# Altium integrated library TI Amplifiers and Linear Operational Amplifier High Speed.IntLib: 1100 symbols (part 18 of 44)
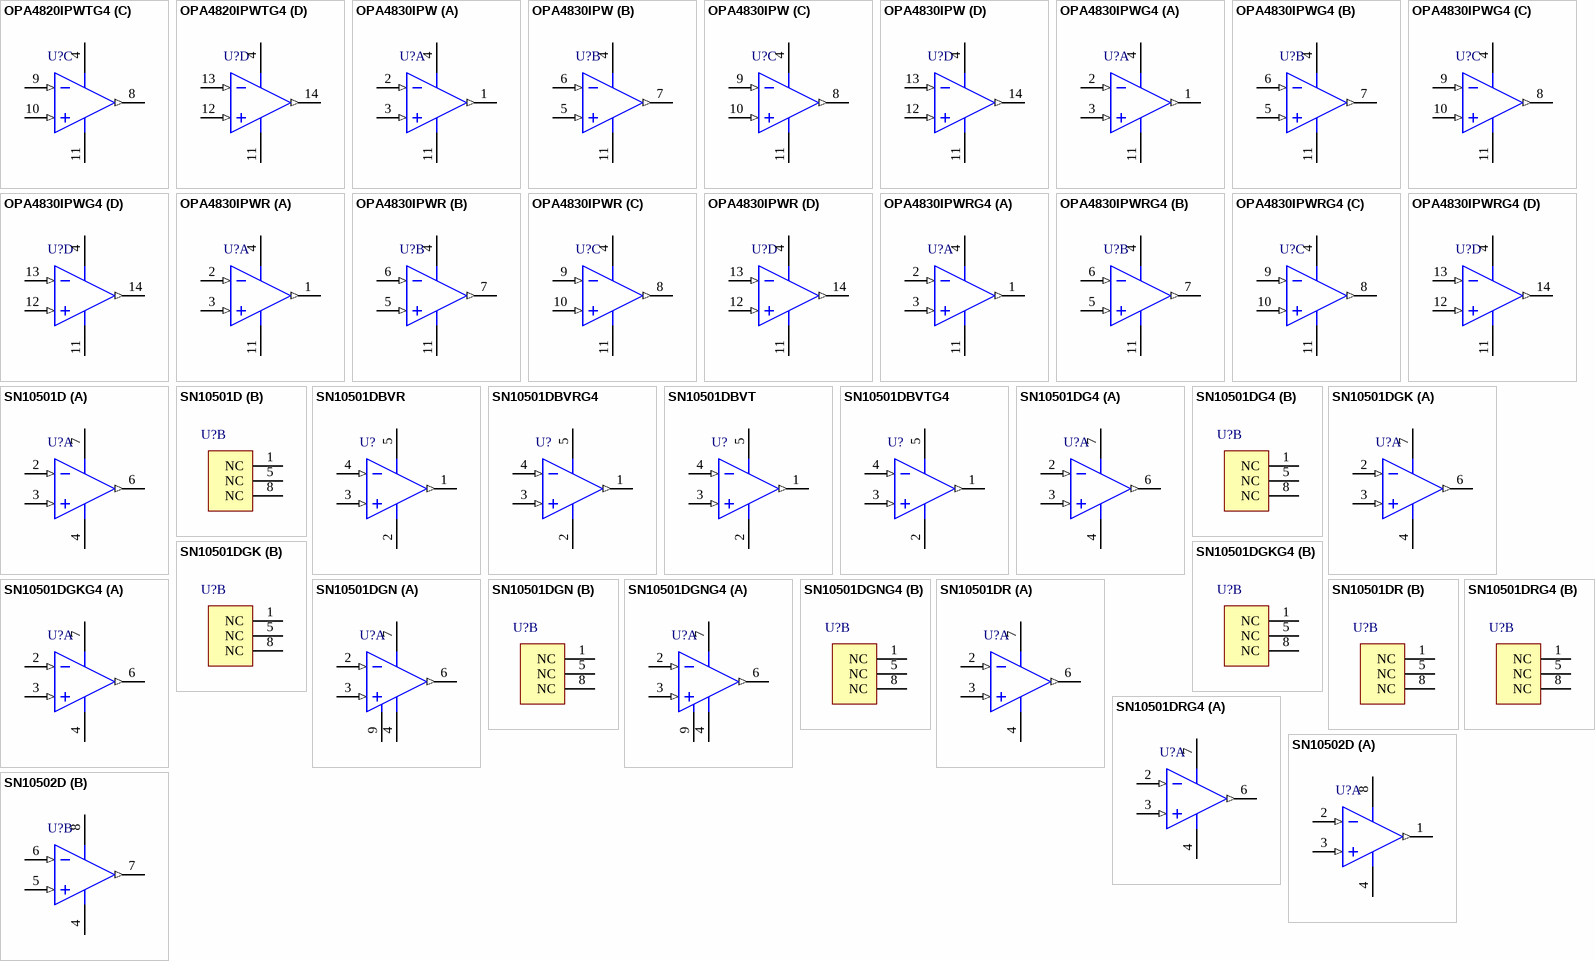
[diagram p68: symbols OPA4820IPWTG4 to SN10502D]

## OPA4820IPWTG4
designator U?
Quad, Unity-Gain, Low-Noise, Voltage-Feedback Operational Amplifier, 4 to 12.6 V, -40 to 85 degC, 14-pin SOP (PW14), Green (RoHS & no Sb/Br); Manufacturer: Texas Instruments; PartNumber: OPA4820IPWTG4; 2nd Harmonic(dBc): 84; 3rd Harmonic(dBc): 92; Acl, min stable gain(V/V): 1; BW @ Acl(MHz): 650; Diff Gain(%): 0.003; Diff Phase(deg): 0.06; Iib(Max)(nA): 26000; Io(Typ)(mA): 85; Iq per channel(Max)(mA): 25.8; Number of Channels: 4; Settling Time (0.1%)(Typ)(ns): 18; Slew Rate(Typ)(V/us): 240; Sub Family: High Output Current Amplifier (>=50mA), High Speed Amplifier (>=50MHz); Vio(Max)(mV): 1.5; Vn at Flatband(Typ)(nV/rtHz): 2.5; Vs(Max)(V): 12.6; DatasheetVersion: SBOS317D; PackageVersion: 4040064-3/G, 02/2011; PackageReference: PW14; PackageDescription: 14-Pin Plastic Small Outline, Body 5 x 4.4 mm, Pitch 0.65 mm; Supplier 1: Digi-Key; Supplier Part Number 1: OPA4820IPWTG4-ND; Supplier 2: Mouser; Supplier Part Number 2: 595-OPA4820IPWTG4; Eco-Plan: Green (RoHS & no Sb/Br); Vs(Min)(V): 4; Mounting Technology: Surface Mount; Code_JEDEC: MO-153; ComponentLink1Description: Manufacturer URL; ComponentLink1URL: http://www.ti.com/; ComponentLink2Description: Datasheet; ComponentLink2URL: http://www.ti.com/general/docs/lit/getliterature.tsp?genericPartNumber=OPA4820&fileType=pdf; ComponentLink3Description: Package Specification; ComponentLink3URL: http://www.ti.com/litv/pdf/mpds360
footprint TI-PW14_N (SOP, 14-Leads, Body 5x4.4mm, Pitch 0.65mm, IPC Medium Density)
footprint TI-PW14_L (SOP, 14-Leads, Body 5x4.4mm, Pitch 0.65mm, IPC High Density)
footprint TI-PW14_M (SOP, 14-Leads, Body 5x4.4mm, Pitch 0.65mm, IPC Low Density)
pins on every part: 4 V+ (power), 11 V- (power)
part A pins: 1 OUT A (out), 2 IN A- (in), 3 IN A+ (in)
part B pins: 5 IN B+ (in), 6 IN B- (in), 7 OUT B (out)
part C pins: 8 OUT C (out), 9 IN C- (in), 10 IN C+ (in)
part D pins: 12 IN D+ (in), 13 IN D- (in), 14 OUT D (out)

## OPA4830IPW
designator U?
Quad, Low-Power, Single-Supply, Wideband Operational Amplifier, 2.8 to 11 V, -40 to 85 degC, 14-pin SOP (PW14), Green (RoHS & no Sb/Br); Manufacturer: Texas Instruments; PartNumber: OPA4830IPW; 2nd Harmonic(dBc): 48; @ MHz: 5; Acl, min stable gain(V/V): 1; BW @ Acl(MHz): 110; Diff Gain(%): 0.08; Diff Phase(deg): 0.09; Iib(Max)(nA): 10000; Io(Typ)(mA): 75; Iq per channel(Max)(mA): 3.9; Number of Channels: 4; Rail-Rail: Out; Slew Rate(Typ)(V/us): 560; Sub Family: High Output Current Amplifier (>=50mA), High Speed Amplifier (>=50MHz); THD (Fc is 1 MHz)(Typ)(dB): -81; Vio(Max)(mV): 6; Vn at Flatband(Typ)(nV/rtHz): 9.2; Vs(Max)(V): 11; Vs(Min)(V): 2.8; DatasheetVersion: SBOS350A; PackageVersion: 4040064-3/G, 02/2011; PackageReference: PW14; PackageDescription: 14-Pin Plastic Small Outline, Body 5 x 4.4 mm, Pitch 0.65 mm; Supplier 1: Digi-Key; Supplier Part Number 1: 296-21513-5-ND; Supplier 2: Newark; Supplier Part Number 2: 30M1564; Supplier 3: Mouser; Supplier Part Number 3: 595-OPA4830IPW; 3rd Harmonic(dBc): 48; Eco-Plan: Green (RoHS & no Sb/Br); Mounting Technology: Surface Mount; Code_JEDEC: MO-153; ComponentLink1Description: Manufacturer URL; ComponentLink1URL: http://www.ti.com/; ComponentLink2Description: Datasheet; ComponentLink2URL: http://www.ti.com/general/docs/lit/getliterature.tsp?genericPartNumber=OPA4830&fileType=pdf; ComponentLink3Description: Package Specification; ComponentLink3URL: http://www.ti.com/litv/pdf/mpds360
footprint TI-PW14_N (SOP, 14-Leads, Body 5x4.4mm, Pitch 0.65mm, IPC Medium Density)
footprint TI-PW14_L (SOP, 14-Leads, Body 5x4.4mm, Pitch 0.65mm, IPC High Density)
footprint TI-PW14_M (SOP, 14-Leads, Body 5x4.4mm, Pitch 0.65mm, IPC Low Density)
pins on every part: 4 V+ (power), 11 V- (power)
part A pins: 1 OUT A (out), 2 IN A- (in), 3 IN A+ (in)
part B pins: 5 IN B+ (in), 6 IN B- (in), 7 OUT B (out)
part C pins: 8 OUT C (out), 9 IN C- (in), 10 IN C+ (in)
part D pins: 12 IN D+ (in), 13 IN D- (in), 14 OUT D (out)

## OPA4830IPWG4
designator U?
Quad, Low-Power, Single-Supply, Wideband Operational Amplifier, 2.8 to 11 V, -40 to 85 degC, 14-pin SOP (PW14), Green (RoHS & no Sb/Br); Manufacturer: Texas Instruments; PartNumber: OPA4830IPWG4; 2nd Harmonic(dBc): 48; @ MHz: 5; Acl, min stable gain(V/V): 1; BW @ Acl(MHz): 110; Diff Gain(%): 0.08; Diff Phase(deg): 0.09; Iib(Max)(nA): 10000; Io(Typ)(mA): 75; Iq per channel(Max)(mA): 3.9; Number of Channels: 4; Rail-Rail: Out; Slew Rate(Typ)(V/us): 560; Sub Family: High Output Current Amplifier (>=50mA), High Speed Amplifier (>=50MHz); THD (Fc is 1 MHz)(Typ)(dB): -81; Vio(Max)(mV): 6; Vn at Flatband(Typ)(nV/rtHz): 9.2; Vs(Max)(V): 11; Vs(Min)(V): 2.8; DatasheetVersion: SBOS350A; PackageVersion: 4040064-3/G, 02/2011; PackageReference: PW14; PackageDescription: 14-Pin Plastic Small Outline, Body 5 x 4.4 mm, Pitch 0.65 mm; Supplier 1: Digi-Key; Supplier Part Number 1: OPA4830IPWG4-ND; Supplier 2: Mouser; Supplier Part Number 2: 595-OPA4830IPWG4; 3rd Harmonic(dBc): 48; Eco-Plan: Green (RoHS & no Sb/Br); Mounting Technology: Surface Mount; Code_JEDEC: MO-153; ComponentLink1Description: Manufacturer URL; ComponentLink1URL: http://www.ti.com/; ComponentLink2Description: Datasheet; ComponentLink2URL: http://www.ti.com/general/docs/lit/getliterature.tsp?genericPartNumber=OPA4830&fileType=pdf; ComponentLink3Description: Package Specification; ComponentLink3URL: http://www.ti.com/litv/pdf/mpds360
footprint TI-PW14_N (SOP, 14-Leads, Body 5x4.4mm, Pitch 0.65mm, IPC Medium Density)
footprint TI-PW14_L (SOP, 14-Leads, Body 5x4.4mm, Pitch 0.65mm, IPC High Density)
footprint TI-PW14_M (SOP, 14-Leads, Body 5x4.4mm, Pitch 0.65mm, IPC Low Density)
pins on every part: 4 V+ (power), 11 V- (power)
part A pins: 1 OUT A (out), 2 IN A- (in), 3 IN A+ (in)
part B pins: 5 IN B+ (in), 6 IN B- (in), 7 OUT B (out)
part C pins: 8 OUT C (out), 9 IN C- (in), 10 IN C+ (in)
part D pins: 12 IN D+ (in), 13 IN D- (in), 14 OUT D (out)

## OPA4830IPWR
designator U?
Quad, Low-Power, Single-Supply, Wideband Operational Amplifier, 2.8 to 11 V, -40 to 85 degC, 14-pin SOP (PW14), Green (RoHS & no Sb/Br); Manufacturer: Texas Instruments; PartNumber: OPA4830IPWR; 2nd Harmonic(dBc): 48; @ MHz: 5; Acl, min stable gain(V/V): 1; BW @ Acl(MHz): 110; Diff Gain(%): 0.08; Diff Phase(deg): 0.09; Iib(Max)(nA): 10000; Io(Typ)(mA): 75; Iq per channel(Max)(mA): 3.9; Number of Channels: 4; Rail-Rail: Out; Slew Rate(Typ)(V/us): 560; Sub Family: High Output Current Amplifier (>=50mA), High Speed Amplifier (>=50MHz); THD (Fc is 1 MHz)(Typ)(dB): -81; Vio(Max)(mV): 6; Vn at Flatband(Typ)(nV/rtHz): 9.2; Vs(Max)(V): 11; Vs(Min)(V): 2.8; DatasheetVersion: SBOS350A; PackageVersion: 4040064-3/G, 02/2011; PackageReference: PW14; PackageDescription: 14-Pin Plastic Small Outline, Body 5 x 4.4 mm, Pitch 0.65 mm; Supplier 1: Digi-Key; Supplier Part Number 1: OPA4830IPWR-ND; Supplier 2: Newark; Supplier Part Number 2: 30M1565; Supplier 3: Mouser; Supplier Part Number 3: 595-OPA4830IPWR; 3rd Harmonic(dBc): 48; Eco-Plan: Green (RoHS & no Sb/Br); Mounting Technology: Surface Mount; Code_JEDEC: MO-153; ComponentLink1Description: Manufacturer URL; ComponentLink1URL: http://www.ti.com/; ComponentLink2Description: Datasheet; ComponentLink2URL: http://www.ti.com/general/docs/lit/getliterature.tsp?genericPartNumber=OPA4830&fileType=pdf; ComponentLink3Description: Package Specification; ComponentLink3URL: http://www.ti.com/litv/pdf/mpds360
footprint TI-PW14_N (SOP, 14-Leads, Body 5x4.4mm, Pitch 0.65mm, IPC Medium Density)
footprint TI-PW14_L (SOP, 14-Leads, Body 5x4.4mm, Pitch 0.65mm, IPC High Density)
footprint TI-PW14_M (SOP, 14-Leads, Body 5x4.4mm, Pitch 0.65mm, IPC Low Density)
pins on every part: 4 V+ (power), 11 V- (power)
part A pins: 1 OUT A (out), 2 IN A- (in), 3 IN A+ (in)
part B pins: 5 IN B+ (in), 6 IN B- (in), 7 OUT B (out)
part C pins: 8 OUT C (out), 9 IN C- (in), 10 IN C+ (in)
part D pins: 12 IN D+ (in), 13 IN D- (in), 14 OUT D (out)

## OPA4830IPWRG4
designator U?
Quad, Low-Power, Single-Supply, Wideband Operational Amplifier, 2.8 to 11 V, -40 to 85 degC, 14-pin SOP (PW14), Green (RoHS & no Sb/Br); Manufacturer: Texas Instruments; PartNumber: OPA4830IPWRG4; 2nd Harmonic(dBc): 48; @ MHz: 5; Acl, min stable gain(V/V): 1; BW @ Acl(MHz): 110; Diff Gain(%): 0.08; Diff Phase(deg): 0.09; Iib(Max)(nA): 10000; Io(Typ)(mA): 75; Iq per channel(Max)(mA): 3.9; Number of Channels: 4; Rail-Rail: Out; Slew Rate(Typ)(V/us): 560; Sub Family: High Output Current Amplifier (>=50mA), High Speed Amplifier (>=50MHz); THD (Fc is 1 MHz)(Typ)(dB): -81; Vio(Max)(mV): 6; Vn at Flatband(Typ)(nV/rtHz): 9.2; Vs(Max)(V): 11; Vs(Min)(V): 2.8; DatasheetVersion: SBOS350A; PackageVersion: 4040064-3/G, 02/2011; PackageReference: PW14; PackageDescription: 14-Pin Plastic Small Outline, Body 5 x 4.4 mm, Pitch 0.65 mm; Supplier 1: Digi-Key; Supplier Part Number 1: OPA4830IPWRG4-ND; Supplier 2: Newark; Supplier Part Number 2: 33M9419; Supplier 3: Mouser; Supplier Part Number 3: 595-OPA4830IPWRG4; 3rd Harmonic(dBc): 48; Eco-Plan: Green (RoHS & no Sb/Br); Mounting Technology: Surface Mount; Code_JEDEC: MO-153; ComponentLink1Description: Manufacturer URL; ComponentLink1URL: http://www.ti.com/; ComponentLink2Description: Datasheet; ComponentLink2URL: http://www.ti.com/general/docs/lit/getliterature.tsp?genericPartNumber=OPA4830&fileType=pdf; ComponentLink3Description: Package Specification; ComponentLink3URL: http://www.ti.com/litv/pdf/mpds360
footprint TI-PW14_N (SOP, 14-Leads, Body 5x4.4mm, Pitch 0.65mm, IPC Medium Density)
footprint TI-PW14_L (SOP, 14-Leads, Body 5x4.4mm, Pitch 0.65mm, IPC High Density)
footprint TI-PW14_M (SOP, 14-Leads, Body 5x4.4mm, Pitch 0.65mm, IPC Low Density)
pins on every part: 4 V+ (power), 11 V- (power)
part A pins: 1 OUT A (out), 2 IN A- (in), 3 IN A+ (in)
part B pins: 5 IN B+ (in), 6 IN B- (in), 7 OUT B (out)
part C pins: 8 OUT C (out), 9 IN C- (in), 10 IN C+ (in)
part D pins: 12 IN D+ (in), 13 IN D- (in), 14 OUT D (out)

## SN10501D
designator U?
Low-Distortion High-Speed Rail-to-Rail Output Operational Amplifier, 2.7 to 16 V, -40 to 85 degC, 8-pin SOIC (D8), Green (RoHS & no Sb/Br); Manufacturer: Texas Instruments; PartNumber: SN10501D; 2nd Harmonic(dBc): 78; 3rd Harmonic(dBc): 85; @ MHz: 5; Acl, min stable gain(V/V): 1; BW @ Acl(MHz): 100; Diff Gain(%): 0.007; Iib(Max)(nA): 5000; Iq per channel(Max)(mA): 22; Settling Time (0.1%)(Typ)(ns): 25; Slew Rate(Typ)(V/us): 900; Sub Family: High Output Current Amplifier (>=50mA), High Speed Amplifier (>=50MHz); THD (Fc is 1 MHz)(Typ)(dB): -78; Vio(Max)(mV): 30; Vn at Flatband(Typ)(nV/rtHz): 13; Vs(Max)(V): 16; Vs(Min)(V): 2.7; DatasheetVersion: SLOS408B; PackageVersion: 4040047-3/M, 06/2011; PackageReference: D8; PackageDescription: 8-Pin Plastic Small Outline, Body 4.9 x 3.9 mm, Pitch 1.27 mm; Supplier 1: Digi-Key; Supplier Part Number 1: 296-14777-5-ND; Supplier 2: Newark; Supplier Part Number 2: 61H5388; Supplier 3: Mouser; Supplier Part Number 3: 595-SN10501D; Diff Phase(deg): 0.007; Eco-Plan: Green (RoHS & no Sb/Br); Io(Typ)(mA): 100; Number of Channels: 1; Mounting Technology: Surface Mount; Code_JEDEC: MS-012; ComponentLink1Description: Manufacturer URL; ComponentLink1URL: http://www.ti.com/; ComponentLink2Description: Datasheet; ComponentLink2URL: http://www.ti.com/general/docs/lit/getliterature.tsp?genericPartNumber=SN10501&fileType=pdf; ComponentLink3Description: Package Specification; ComponentLink3URL: http://www.ti.com/litv/pdf/msoi002j
footprint TI-D8_N (SOIC, 8-Leads, Body 4.9x3.9mm, Pitch 1.27mm, IPC Medium Density)
footprint TI-D8_L (SOIC, 8-Leads, Body 4.9x3.9mm, Pitch 1.27mm, IPC High Density)
footprint TI-D8_M (SOIC, 8-Leads, Body 4.9x3.9mm, Pitch 1.27mm, IPC Low Density)
part A pins: 2 IN- (in), 3 IN+ (in), 4 VS- (power), 6 VOUT (out), 7 VS+ (power)
part B pins: 1 NC, 5 NC, 8 NC

## SN10501DBVR
designator U?
Low-Distortion High-Speed Rail-to-Rail Output Operational Amplifier, 2.7 to 16 V, -40 to 85 degC, 5-pin SOT23 (DBV5), Green (RoHS & no Sb/Br); Manufacturer: Texas Instruments; PartNumber: SN10501DBVR; 2nd Harmonic(dBc): 78; 3rd Harmonic(dBc): 85; @ MHz: 5; Acl, min stable gain(V/V): 1; BW @ Acl(MHz): 100; Diff Gain(%): 0.007; Iib(Max)(nA): 5000; Iq per channel(Max)(mA): 22; Settling Time (0.1%)(Typ)(ns): 25; Slew Rate(Typ)(V/us): 900; Sub Family: High Output Current Amplifier (>=50mA), High Speed Amplifier (>=50MHz); THD (Fc is 1 MHz)(Typ)(dB): -78; Vio(Max)(mV): 30; Vn at Flatband(Typ)(nV/rtHz): 13; Vs(Max)(V): 16; Vs(Min)(V): 2.7; DatasheetVersion: SLOS408B; PackageVersion: 4073253-4/K, 03/2006; PackageReference: DBV5; PackageDescription: 5-Pin Plastic Small Outline, Body 1.6 x 2.9 mm, Pitch 0.95 mm; Supplier 1: Digi-Key; Supplier Part Number 1: SN10501DBVR-ND; Supplier 2: Newark; Supplier Part Number 2: 61H5389; Supplier 3: Mouser; Supplier Part Number 3: 595-SN10501DBVR; Diff Phase(deg): 0.007; Eco-Plan: Green (RoHS & no Sb/Br); Io(Typ)(mA): 100; Number of Channels: 1; Mounting Technology: Surface Mount; Code_JEDEC: MO-178; ComponentLink1Description: Manufacturer URL; ComponentLink1URL: http://www.ti.com/; ComponentLink2Description: Datasheet; ComponentLink2URL: http://www.ti.com/general/docs/lit/getliterature.tsp?genericPartNumber=SN10501&fileType=pdf; ComponentLink3Description: Package Specification; ComponentLink3URL: http://www.ti.com/litv/pdf/mpds018i
footprint TI-DBV5_N (SOT23, 5-Leads, Body 2.9x1.6mm, Pitch 0.95mm, IPC Medium Density)
footprint TI-DBV5_L (SOT23, 5-Leads, Body 2.9x1.6mm, Pitch 0.95mm, IPC High Density)
footprint TI-DBV5_M (SOT23, 5-Leads, Body 2.9x1.6mm, Pitch 0.95mm, IPC Low Density)
pins: 1 VOUT (out), 2 VS- (power), 3 IN+ (in), 4 IN- (in), 5 VS+ (power)

## SN10501DBVRG4
designator U?
Low-Distortion High-Speed Rail-to-Rail Output Operational Amplifier, 2.7 to 16 V, -40 to 85 degC, 5-pin SOT23 (DBV5), Green (RoHS & no Sb/Br); Manufacturer: Texas Instruments; PartNumber: SN10501DBVRG4; 2nd Harmonic(dBc): 78; 3rd Harmonic(dBc): 85; @ MHz: 5; Acl, min stable gain(V/V): 1; BW @ Acl(MHz): 100; Diff Gain(%): 0.007; Iib(Max)(nA): 5000; Iq per channel(Max)(mA): 22; Settling Time (0.1%)(Typ)(ns): 25; Slew Rate(Typ)(V/us): 900; Sub Family: High Output Current Amplifier (>=50mA), High Speed Amplifier (>=50MHz); THD (Fc is 1 MHz)(Typ)(dB): -78; Vio(Max)(mV): 30; Vn at Flatband(Typ)(nV/rtHz): 13; Vs(Max)(V): 16; Vs(Min)(V): 2.7; DatasheetVersion: SLOS408B; PackageVersion: 4073253-4/K, 03/2006; PackageReference: DBV5; PackageDescription: 5-Pin Plastic Small Outline, Body 1.6 x 2.9 mm, Pitch 0.95 mm; Supplier 1: Digi-Key; Supplier Part Number 1: SN10501DBVRG4-ND; Supplier 2: Newark; Supplier Part Number 2: 24K4803; Supplier 3: Mouser; Supplier Part Number 3: 595-SN10501DBVRG4; Diff Phase(deg): 0.007; Eco-Plan: Green (RoHS & no Sb/Br); Io(Typ)(mA): 100; Number of Channels: 1; Mounting Technology: Surface Mount; Code_JEDEC: MO-178; ComponentLink1Description: Manufacturer URL; ComponentLink1URL: http://www.ti.com/; ComponentLink2Description: Datasheet; ComponentLink2URL: http://www.ti.com/general/docs/lit/getliterature.tsp?genericPartNumber=SN10501&fileType=pdf; ComponentLink3Description: Package Specification; ComponentLink3URL: http://www.ti.com/litv/pdf/mpds018i
footprint TI-DBV5_N (SOT23, 5-Leads, Body 2.9x1.6mm, Pitch 0.95mm, IPC Medium Density)
footprint TI-DBV5_L (SOT23, 5-Leads, Body 2.9x1.6mm, Pitch 0.95mm, IPC High Density)
footprint TI-DBV5_M (SOT23, 5-Leads, Body 2.9x1.6mm, Pitch 0.95mm, IPC Low Density)
pins: 1 VOUT (out), 2 VS- (power), 3 IN+ (in), 4 IN- (in), 5 VS+ (power)

## SN10501DBVT
designator U?
Low-Distortion High-Speed Rail-to-Rail Output Operational Amplifier, 2.7 to 16 V, -40 to 85 degC, 5-pin SOT23 (DBV5), Green (RoHS & no Sb/Br); Manufacturer: Texas Instruments; PartNumber: SN10501DBVT; 2nd Harmonic(dBc): 78; 3rd Harmonic(dBc): 85; @ MHz: 5; Acl, min stable gain(V/V): 1; BW @ Acl(MHz): 100; Diff Gain(%): 0.007; Iib(Max)(nA): 5000; Iq per channel(Max)(mA): 22; Settling Time (0.1%)(Typ)(ns): 25; Slew Rate(Typ)(V/us): 900; Sub Family: High Output Current Amplifier (>=50mA), High Speed Amplifier (>=50MHz); THD (Fc is 1 MHz)(Typ)(dB): -78; Vio(Max)(mV): 30; Vn at Flatband(Typ)(nV/rtHz): 13; Vs(Max)(V): 16; Vs(Min)(V): 2.7; DatasheetVersion: SLOS408B; PackageVersion: 4073253-4/K, 03/2006; PackageReference: DBV5; PackageDescription: 5-Pin Plastic Small Outline, Body 1.6 x 2.9 mm, Pitch 0.95 mm; Supplier 1: Digi-Key; Supplier Part Number 1: 296-15094-2-ND; Supplier 2: Digi-Key; Supplier Part Number 2: 296-15094-1-ND; Supplier 3: Digi-Key; Supplier Part Number 3: 296-15094-6-ND; Supplier 4: Newark; Supplier Part Number 4: 61H5390; Supplier 5: Mouser; Supplier Part Number 5: 595-SN10501DBVT; Diff Phase(deg): 0.007; Eco-Plan: Green (RoHS & no Sb/Br); Io(Typ)(mA): 100; Number of Channels: 1; Mounting Technology: Surface Mount; Code_JEDEC: MO-178; ComponentLink1Description: Manufacturer URL; ComponentLink1URL: http://www.ti.com/; ComponentLink2Description: Datasheet; ComponentLink2URL: http://www.ti.com/general/docs/lit/getliterature.tsp?genericPartNumber=SN10501&fileType=pdf; ComponentLink3Description: Package Specification; ComponentLink3URL: http://www.ti.com/litv/pdf/mpds018i
footprint TI-DBV5_N (SOT23, 5-Leads, Body 2.9x1.6mm, Pitch 0.95mm, IPC Medium Density)
footprint TI-DBV5_L (SOT23, 5-Leads, Body 2.9x1.6mm, Pitch 0.95mm, IPC High Density)
footprint TI-DBV5_M (SOT23, 5-Leads, Body 2.9x1.6mm, Pitch 0.95mm, IPC Low Density)
pins: 1 VOUT (out), 2 VS- (power), 3 IN+ (in), 4 IN- (in), 5 VS+ (power)

## SN10501DBVTG4
designator U?
Low-Distortion High-Speed Rail-to-Rail Output Operational Amplifier, 2.7 to 16 V, -40 to 85 degC, 5-pin SOT23 (DBV5), Green (RoHS & no Sb/Br); Manufacturer: Texas Instruments; PartNumber: SN10501DBVTG4; 2nd Harmonic(dBc): 78; 3rd Harmonic(dBc): 85; @ MHz: 5; Acl, min stable gain(V/V): 1; BW @ Acl(MHz): 100; Diff Gain(%): 0.007; Iib(Max)(nA): 5000; Iq per channel(Max)(mA): 22; Settling Time (0.1%)(Typ)(ns): 25; Slew Rate(Typ)(V/us): 900; Sub Family: High Output Current Amplifier (>=50mA), High Speed Amplifier (>=50MHz); THD (Fc is 1 MHz)(Typ)(dB): -78; Vio(Max)(mV): 30; Vn at Flatband(Typ)(nV/rtHz): 13; Vs(Max)(V): 16; Vs(Min)(V): 2.7; DatasheetVersion: SLOS408B; PackageVersion: 4073253-4/K, 03/2006; PackageReference: DBV5; PackageDescription: 5-Pin Plastic Small Outline, Body 1.6 x 2.9 mm, Pitch 0.95 mm; Supplier 1: Digi-Key; Supplier Part Number 1: SN10501DBVTG4-ND; Supplier 2: Newark; Supplier Part Number 2: 24K4804; Supplier 3: Mouser; Supplier Part Number 3: 595-SN10501DBVTG4; Diff Phase(deg): 0.007; Eco-Plan: Green (RoHS & no Sb/Br); Io(Typ)(mA): 100; Number of Channels: 1; Mounting Technology: Surface Mount; Code_JEDEC: MO-178; ComponentLink1Description: Manufacturer URL; ComponentLink1URL: http://www.ti.com/; ComponentLink2Description: Datasheet; ComponentLink2URL: http://www.ti.com/general/docs/lit/getliterature.tsp?genericPartNumber=SN10501&fileType=pdf; ComponentLink3Description: Package Specification; ComponentLink3URL: http://www.ti.com/litv/pdf/mpds018i
footprint TI-DBV5_N (SOT23, 5-Leads, Body 2.9x1.6mm, Pitch 0.95mm, IPC Medium Density)
footprint TI-DBV5_L (SOT23, 5-Leads, Body 2.9x1.6mm, Pitch 0.95mm, IPC High Density)
footprint TI-DBV5_M (SOT23, 5-Leads, Body 2.9x1.6mm, Pitch 0.95mm, IPC Low Density)
pins: 1 VOUT (out), 2 VS- (power), 3 IN+ (in), 4 IN- (in), 5 VS+ (power)

## SN10501DG4
designator U?
Low-Distortion High-Speed Rail-to-Rail Output Operational Amplifier, 2.7 to 16 V, -40 to 85 degC, 8-pin SOIC (D8), Green (RoHS & no Sb/Br); Manufacturer: Texas Instruments; PartNumber: SN10501DG4; 2nd Harmonic(dBc): 78; 3rd Harmonic(dBc): 85; @ MHz: 5; Acl, min stable gain(V/V): 1; BW @ Acl(MHz): 100; Diff Gain(%): 0.007; Iib(Max)(nA): 5000; Iq per channel(Max)(mA): 22; Settling Time (0.1%)(Typ)(ns): 25; Slew Rate(Typ)(V/us): 900; Sub Family: High Output Current Amplifier (>=50mA), High Speed Amplifier (>=50MHz); THD (Fc is 1 MHz)(Typ)(dB): -78; Vio(Max)(mV): 30; Vn at Flatband(Typ)(nV/rtHz): 13; Vs(Max)(V): 16; Vs(Min)(V): 2.7; DatasheetVersion: SLOS408B; PackageVersion: 4040047-3/M, 06/2011; PackageReference: D8; PackageDescription: 8-Pin Plastic Small Outline, Body 4.9 x 3.9 mm, Pitch 1.27 mm; Supplier 1: Digi-Key; Supplier Part Number 1: SN10501DG4-ND; Supplier 2: Newark; Supplier Part Number 2: 02M4221; Supplier 3: Mouser; Supplier Part Number 3: 595-SN10501DG4; Diff Phase(deg): 0.007; Eco-Plan: Green (RoHS & no Sb/Br); Io(Typ)(mA): 100; Number of Channels: 1; Mounting Technology: Surface Mount; Code_JEDEC: MS-012; ComponentLink1Description: Manufacturer URL; ComponentLink1URL: http://www.ti.com/; ComponentLink2Description: Datasheet; ComponentLink2URL: http://www.ti.com/general/docs/lit/getliterature.tsp?genericPartNumber=SN10501&fileType=pdf; ComponentLink3Description: Package Specification; ComponentLink3URL: http://www.ti.com/litv/pdf/msoi002j
footprint TI-D8_N (SOIC, 8-Leads, Body 4.9x3.9mm, Pitch 1.27mm, IPC Medium Density)
footprint TI-D8_L (SOIC, 8-Leads, Body 4.9x3.9mm, Pitch 1.27mm, IPC High Density)
footprint TI-D8_M (SOIC, 8-Leads, Body 4.9x3.9mm, Pitch 1.27mm, IPC Low Density)
part A pins: 2 IN- (in), 3 IN+ (in), 4 VS- (power), 6 VOUT (out), 7 VS+ (power)
part B pins: 1 NC, 5 NC, 8 NC

## SN10501DGK
designator U?
Low-Distortion High-Speed Rail-to-Rail Output Operational Amplifier, 2.7 to 16 V, -40 to 85 degC, 8-pin SOP (DGK8), Green (RoHS & no Sb/Br); Manufacturer: Texas Instruments; PartNumber: SN10501DGK; 2nd Harmonic(dBc): 78; 3rd Harmonic(dBc): 85; @ MHz: 5; Acl, min stable gain(V/V): 1; BW @ Acl(MHz): 100; Diff Gain(%): 0.007; Iib(Max)(nA): 5000; Iq per channel(Max)(mA): 22; Settling Time (0.1%)(Typ)(ns): 25; Slew Rate(Typ)(V/us): 900; Sub Family: High Output Current Amplifier (>=50mA), High Speed Amplifier (>=50MHz); THD (Fc is 1 MHz)(Typ)(dB): -78; Vio(Max)(mV): 30; Vn at Flatband(Typ)(nV/rtHz): 13; Vs(Max)(V): 16; Vs(Min)(V): 2.7; DatasheetVersion: SLOS408B; PackageVersion: 4073329/E, 05/2006; PackageReference: DGK8; PackageDescription: 8-Pin Thin Small Outline, Body 3 x 3 mm, Pitch 0.65 mm; Supplier 1: Digi-Key; Supplier Part Number 1: 296-16654-5-ND; Supplier 2: Newark; Supplier Part Number 2: 90H3595; Supplier 3: Mouser; Supplier Part Number 3: 595-SN10501DGK; Diff Phase(deg): 0.007; Eco-Plan: Green (RoHS & no Sb/Br); Io(Typ)(mA): 100; Number of Channels: 1; Mounting Technology: Surface Mount; Code_JEDEC: MO-187; ComponentLink1Description: Manufacturer URL; ComponentLink1URL: http://www.ti.com/; ComponentLink2Description: Datasheet; ComponentLink2URL: http://www.ti.com/general/docs/lit/getliterature.tsp?genericPartNumber=SN10501&fileType=pdf; ComponentLink3Description: Package Specification; ComponentLink3URL: http://www.ti.com/litv/pdf/mpds028d
footprint TI-DGK8_N (SOP, 8-Leads, Body 3x3mm, Pitch 0.65mm, IPC Medium Density)
footprint TI-DGK8_L (SOP, 8-Leads, Body 3x3mm, Pitch 0.65mm, IPC High Density)
footprint TI-DGK8_M (SOP, 8-Leads, Body 3x3mm, Pitch 0.65mm, IPC Low Density)
part A pins: 2 IN- (in), 3 IN+ (in), 4 VS- (power), 6 VOUT (out), 7 VS+ (power)
part B pins: 1 NC, 5 NC, 8 NC

## SN10501DGKG4
designator U?
Low-Distortion High-Speed Rail-to-Rail Output Operational Amplifier, 2.7 to 16 V, -40 to 85 degC, 8-pin SOP (DGK8), Green (RoHS & no Sb/Br); Manufacturer: Texas Instruments; PartNumber: SN10501DGKG4; 2nd Harmonic(dBc): 78; 3rd Harmonic(dBc): 85; @ MHz: 5; Acl, min stable gain(V/V): 1; BW @ Acl(MHz): 100; Diff Gain(%): 0.007; Iib(Max)(nA): 5000; Iq per channel(Max)(mA): 22; Settling Time (0.1%)(Typ)(ns): 25; Slew Rate(Typ)(V/us): 900; Sub Family: High Output Current Amplifier (>=50mA), High Speed Amplifier (>=50MHz); THD (Fc is 1 MHz)(Typ)(dB): -78; Vio(Max)(mV): 30; Vn at Flatband(Typ)(nV/rtHz): 13; Vs(Max)(V): 16; Vs(Min)(V): 2.7; DatasheetVersion: SLOS408B; PackageVersion: 4073329/E, 05/2006; PackageReference: DGK8; PackageDescription: 8-Pin Thin Small Outline, Body 3 x 3 mm, Pitch 0.65 mm; Supplier 1: Digi-Key; Supplier Part Number 1: SN10501DGKG4-ND; Supplier 2: Newark; Supplier Part Number 2: 81K3924; Supplier 3: Mouser; Supplier Part Number 3: 595-SN10501DGKG4; Diff Phase(deg): 0.007; Eco-Plan: Green (RoHS & no Sb/Br); Io(Typ)(mA): 100; Number of Channels: 1; Mounting Technology: Surface Mount; Code_JEDEC: MO-187; ComponentLink1Description: Manufacturer URL; ComponentLink1URL: http://www.ti.com/; ComponentLink2Description: Datasheet; ComponentLink2URL: http://www.ti.com/general/docs/lit/getliterature.tsp?genericPartNumber=SN10501&fileType=pdf; ComponentLink3Description: Package Specification; ComponentLink3URL: http://www.ti.com/litv/pdf/mpds028d
footprint TI-DGK8_N (SOP, 8-Leads, Body 3x3mm, Pitch 0.65mm, IPC Medium Density)
footprint TI-DGK8_L (SOP, 8-Leads, Body 3x3mm, Pitch 0.65mm, IPC High Density)
footprint TI-DGK8_M (SOP, 8-Leads, Body 3x3mm, Pitch 0.65mm, IPC Low Density)
part A pins: 2 IN- (in), 3 IN+ (in), 4 VS- (power), 6 VOUT (out), 7 VS+ (power)
part B pins: 1 NC, 5 NC, 8 NC

## SN10501DGN
designator U?
Low-Distortion High-Speed Rail-to-Rail Output Operational Amplifier, 2.7 to 16 V, -40 to 85 degC, 8-pin SOP (DGN8), Green (RoHS & no Sb/Br); Manufacturer: Texas Instruments; PartNumber: SN10501DGN; 2nd Harmonic(dBc): 78; 3rd Harmonic(dBc): 85; @ MHz: 5; Acl, min stable gain(V/V): 1; BW @ Acl(MHz): 100; Diff Gain(%): 0.007; Iib(Max)(nA): 5000; Iq per channel(Max)(mA): 22; Settling Time (0.1%)(Typ)(ns): 25; Slew Rate(Typ)(V/us): 900; Sub Family: High Output Current Amplifier (>=50mA), High Speed Amplifier (>=50MHz); THD (Fc is 1 MHz)(Typ)(dB): -78; Vio(Max)(mV): 30; Vn at Flatband(Typ)(nV/rtHz): 13; Vs(Max)(V): 16; Vs(Min)(V): 2.7; DatasheetVersion: SLOS408B; PackageVersion: 4073271/F, 05/2011; PackageReference: DGN8-1760X1425TP; PackageDescription: 8-pin Plastic Small Outline, Body 3 x 3 mm, Pitch 0.65 mm; Supplier 1: Digi-Key; Supplier Part Number 1: 296-18520-5-ND; Supplier 2: Newark; Supplier Part Number 2: 90H3597; Supplier 3: Mouser; Supplier Part Number 3: 595-SN10501DGN; Diff Phase(deg): 0.007; Eco-Plan: Green (RoHS & no Sb/Br); Io(Typ)(mA): 100; Number of Channels: 1; Mounting Technology: Surface Mount; Code_JEDEC: MO-187; ComponentLink1Description: Manufacturer URL; ComponentLink1URL: http://www.ti.com/; ComponentLink2Description: Datasheet; ComponentLink2URL: http://www.ti.com/general/docs/lit/getliterature.tsp?genericPartNumber=SN10501&fileType=pdf; ComponentLink3Description: Package Specification; ComponentLink3URL: http://www.ti.com/litv/pdf/mpds046e
footprint TI-DGN8-1760X1425TP_N (SOP, 8-Leads, Body 3x3mm, Pitch 0.65mm, Thermal Pad 1.76x1.425mm, IPC Medium Density)
footprint TI-DGN8-1760X1425TP_L (SOP, 8-Leads, Body 3x3mm, Pitch 0.65mm, Thermal Pad 1.76x1.425mm, IPC High Density)
footprint TI-DGN8-1760X1425TP_M (SOP, 8-Leads, Body 3x3mm, Pitch 0.65mm, Thermal Pad 1.76 x 1.425 mm, IPC Low Density)
part A pins: 2 IN- (in), 3 IN+ (in), 4 VS- (power), 6 VOUT (out), 7 VS+ (power), 9 EP
part B pins: 1 NC, 5 NC, 8 NC

## SN10501DGNG4
designator U?
Low-Distortion High-Speed Rail-to-Rail Output Operational Amplifier, 2.7 to 16 V, -40 to 85 degC, 8-pin SOP (DGN8), Green (RoHS & no Sb/Br); Manufacturer: Texas Instruments; PartNumber: SN10501DGNG4; 2nd Harmonic(dBc): 78; 3rd Harmonic(dBc): 85; @ MHz: 5; Acl, min stable gain(V/V): 1; BW @ Acl(MHz): 100; Diff Gain(%): 0.007; Iib(Max)(nA): 5000; Iq per channel(Max)(mA): 22; Settling Time (0.1%)(Typ)(ns): 25; Slew Rate(Typ)(V/us): 900; Sub Family: High Output Current Amplifier (>=50mA), High Speed Amplifier (>=50MHz); THD (Fc is 1 MHz)(Typ)(dB): -78; Vio(Max)(mV): 30; Vn at Flatband(Typ)(nV/rtHz): 13; Vs(Max)(V): 16; Vs(Min)(V): 2.7; DatasheetVersion: SLOS408B; PackageVersion: 4073271/F, 05/2011; PackageReference: DGN8-1760X1425TP; PackageDescription: 8-pin Plastic Small Outline, Body 3 x 3 mm, Pitch 0.65 mm; Supplier 1: Digi-Key; Supplier Part Number 1: SN10501DGNG4-ND; Supplier 2: Newark; Supplier Part Number 2: 81K3925; Supplier 3: Mouser; Supplier Part Number 3: 595-SN10501DGNG4; Diff Phase(deg): 0.007; Eco-Plan: Green (RoHS & no Sb/Br); Io(Typ)(mA): 100; Number of Channels: 1; Mounting Technology: Surface Mount; Code_JEDEC: MO-187; ComponentLink1Description: Manufacturer URL; ComponentLink1URL: http://www.ti.com/; ComponentLink2Description: Datasheet; ComponentLink2URL: http://www.ti.com/general/docs/lit/getliterature.tsp?genericPartNumber=SN10501&fileType=pdf; ComponentLink3Description: Package Specification; ComponentLink3URL: http://www.ti.com/litv/pdf/mpds046e
footprint TI-DGN8-1760X1425TP_N (SOP, 8-Leads, Body 3x3mm, Pitch 0.65mm, Thermal Pad 1.76x1.425mm, IPC Medium Density)
footprint TI-DGN8-1760X1425TP_L (SOP, 8-Leads, Body 3x3mm, Pitch 0.65mm, Thermal Pad 1.76x1.425mm, IPC High Density)
footprint TI-DGN8-1760X1425TP_M (SOP, 8-Leads, Body 3x3mm, Pitch 0.65mm, Thermal Pad 1.76 x 1.425 mm, IPC Low Density)
part A pins: 2 IN- (in), 3 IN+ (in), 4 VS- (power), 6 VOUT (out), 7 VS+ (power), 9 EP
part B pins: 1 NC, 5 NC, 8 NC

## SN10501DR
designator U?
Low-Distortion High-Speed Rail-to-Rail Output Operational Amplifier, 2.7 to 16 V, -40 to 85 degC, 8-pin SOIC (D8), Green (RoHS & no Sb/Br); Manufacturer: Texas Instruments; PartNumber: SN10501DR; 2nd Harmonic(dBc): 78; 3rd Harmonic(dBc): 85; @ MHz: 5; Acl, min stable gain(V/V): 1; BW @ Acl(MHz): 100; Diff Gain(%): 0.007; Iib(Max)(nA): 5000; Iq per channel(Max)(mA): 22; Settling Time (0.1%)(Typ)(ns): 25; Slew Rate(Typ)(V/us): 900; Sub Family: High Output Current Amplifier (>=50mA), High Speed Amplifier (>=50MHz); THD (Fc is 1 MHz)(Typ)(dB): -78; Vio(Max)(mV): 30; Vn at Flatband(Typ)(nV/rtHz): 13; Vs(Max)(V): 16; Vs(Min)(V): 2.7; DatasheetVersion: SLOS408B; PackageVersion: 4040047-3/M, 06/2011; PackageReference: D8; PackageDescription: 8-Pin Plastic Small Outline, Body 4.9 x 3.9 mm, Pitch 1.27 mm; Supplier 1: Digi-Key; Supplier Part Number 1: SN10501DR-ND; Supplier 2: Newark; Supplier Part Number 2: 61H5391; Supplier 3: Mouser; Supplier Part Number 3: 595-SN10501DR; Diff Phase(deg): 0.007; Eco-Plan: Green (RoHS & no Sb/Br); Io(Typ)(mA): 100; Number of Channels: 1; Mounting Technology: Surface Mount; Code_JEDEC: MS-012; ComponentLink1Description: Manufacturer URL; ComponentLink1URL: http://www.ti.com/; ComponentLink2Description: Datasheet; ComponentLink2URL: http://www.ti.com/general/docs/lit/getliterature.tsp?genericPartNumber=SN10501&fileType=pdf; ComponentLink3Description: Package Specification; ComponentLink3URL: http://www.ti.com/litv/pdf/msoi002j
footprint TI-D8_N (SOIC, 8-Leads, Body 4.9x3.9mm, Pitch 1.27mm, IPC Medium Density)
footprint TI-D8_L (SOIC, 8-Leads, Body 4.9x3.9mm, Pitch 1.27mm, IPC High Density)
footprint TI-D8_M (SOIC, 8-Leads, Body 4.9x3.9mm, Pitch 1.27mm, IPC Low Density)
part A pins: 2 IN- (in), 3 IN+ (in), 4 VS- (power), 6 VOUT (out), 7 VS+ (power)
part B pins: 1 NC, 5 NC, 8 NC

## SN10501DRG4
designator U?
Low-Distortion High-Speed Rail-to-Rail Output Operational Amplifier, 2.7 to 16 V, -40 to 85 degC, 8-pin SOIC (D8), Green (RoHS & no Sb/Br); Manufacturer: Texas Instruments; PartNumber: SN10501DRG4; 2nd Harmonic(dBc): 78; 3rd Harmonic(dBc): 85; @ MHz: 5; Acl, min stable gain(V/V): 1; BW @ Acl(MHz): 100; Diff Gain(%): 0.007; Iib(Max)(nA): 5000; Iq per channel(Max)(mA): 22; Settling Time (0.1%)(Typ)(ns): 25; Slew Rate(Typ)(V/us): 900; Sub Family: High Output Current Amplifier (>=50mA), High Speed Amplifier (>=50MHz); THD (Fc is 1 MHz)(Typ)(dB): -78; Vio(Max)(mV): 30; Vn at Flatband(Typ)(nV/rtHz): 13; Vs(Max)(V): 16; Vs(Min)(V): 2.7; DatasheetVersion: SLOS408B; PackageVersion: 4040047-3/M, 06/2011; PackageReference: D8; PackageDescription: 8-Pin Plastic Small Outline, Body 4.9 x 3.9 mm, Pitch 1.27 mm; Supplier 1: Digi-Key; Supplier Part Number 1: SN10501DRG4-ND; Supplier 2: Newark; Supplier Part Number 2: 02M4222; Supplier 3: Mouser; Supplier Part Number 3: 595-SN10501DRG4; Diff Phase(deg): 0.007; Eco-Plan: Green (RoHS & no Sb/Br); Io(Typ)(mA): 100; Number of Channels: 1; Mounting Technology: Surface Mount; Code_JEDEC: MS-012; ComponentLink1Description: Manufacturer URL; ComponentLink1URL: http://www.ti.com/; ComponentLink2Description: Datasheet; ComponentLink2URL: http://www.ti.com/general/docs/lit/getliterature.tsp?genericPartNumber=SN10501&fileType=pdf; ComponentLink3Description: Package Specification; ComponentLink3URL: http://www.ti.com/litv/pdf/msoi002j
footprint TI-D8_N (SOIC, 8-Leads, Body 4.9x3.9mm, Pitch 1.27mm, IPC Medium Density)
footprint TI-D8_L (SOIC, 8-Leads, Body 4.9x3.9mm, Pitch 1.27mm, IPC High Density)
footprint TI-D8_M (SOIC, 8-Leads, Body 4.9x3.9mm, Pitch 1.27mm, IPC Low Density)
part A pins: 2 IN- (in), 3 IN+ (in), 4 VS- (power), 6 VOUT (out), 7 VS+ (power)
part B pins: 1 NC, 5 NC, 8 NC

## SN10502D
designator U?
Low-Distortion High-Speed Rail-to-Rail Output Operational Amplifier, 2.7 to 16 V, -40 to 85 degC, 8-pin SOIC (D8), Green (RoHS & no Sb/Br); Manufacturer: Texas Instruments; PartNumber: SN10502D; 2nd Harmonic(dBc): 78; 3rd Harmonic(dBc): 85; @ MHz: 5; Acl, min stable gain(V/V): 1; BW @ Acl(MHz): 100; Diff Gain(%): 0.007; Iib(Max)(nA): 5000; Iq per channel(Max)(mA): 22; Number of Channels: 2; Settling Time (0.1%)(Typ)(ns): 25; Slew Rate(Typ)(V/us): 900; Sub Family: High Output Current Amplifier (>=50mA), High Speed Amplifier (>=50MHz); THD (Fc is 1 MHz)(Typ)(dB): -78; Vio(Max)(mV): 30; Vn at Flatband(Typ)(nV/rtHz): 13; Vs(Max)(V): 16; Vs(Min)(V): 2.7; DatasheetVersion: SLOS408B; PackageVersion: 4040047-3/M, 06/2011; PackageReference: D8; PackageDescription: 8-Pin Plastic Small Outline, Body 4.9 x 3.9 mm, Pitch 1.27 mm; Supplier 1: Digi-Key; Supplier Part Number 1: 296-15329-5-ND; Supplier 2: Farnell; Supplier Part Number 2: 8451982; Supplier 3: Newark; Supplier Part Number 3: 38K7690; Supplier 4: Newark; Supplier Part Number 4: 73H4401; Supplier 5: Mouser; Supplier Part Number 5: 595-SN10502D; Diff Phase(deg): 0.007; Eco-Plan: Green (RoHS & no Sb/Br); Io(Typ)(mA): 100; Mounting Technology: Surface Mount; Code_JEDEC: MS-012; ComponentLink1Description: Manufacturer URL; ComponentLink1URL: http://www.ti.com/; ComponentLink2Description: Datasheet; ComponentLink2URL: http://www.ti.com/general/docs/lit/getliterature.tsp?genericPartNumber=SN10502&fileType=pdf; ComponentLink3Description: Package Specification; ComponentLink3URL: http://www.ti.com/litv/pdf/msoi002j
footprint TI-D8_N (SOIC, 8-Leads, Body 4.9x3.9mm, Pitch 1.27mm, IPC Medium Density)
footprint TI-D8_L (SOIC, 8-Leads, Body 4.9x3.9mm, Pitch 1.27mm, IPC High Density)
footprint TI-D8_M (SOIC, 8-Leads, Body 4.9x3.9mm, Pitch 1.27mm, IPC Low Density)
pins on every part: 4 VS- (power), 8 VS+ (power)
part A pins: 1 OUT1 (out), 2 IN1- (in), 3 IN1+ (in)
part B pins: 5 IN2+ (in), 6 IN2- (in), 7 OUT2 (out)

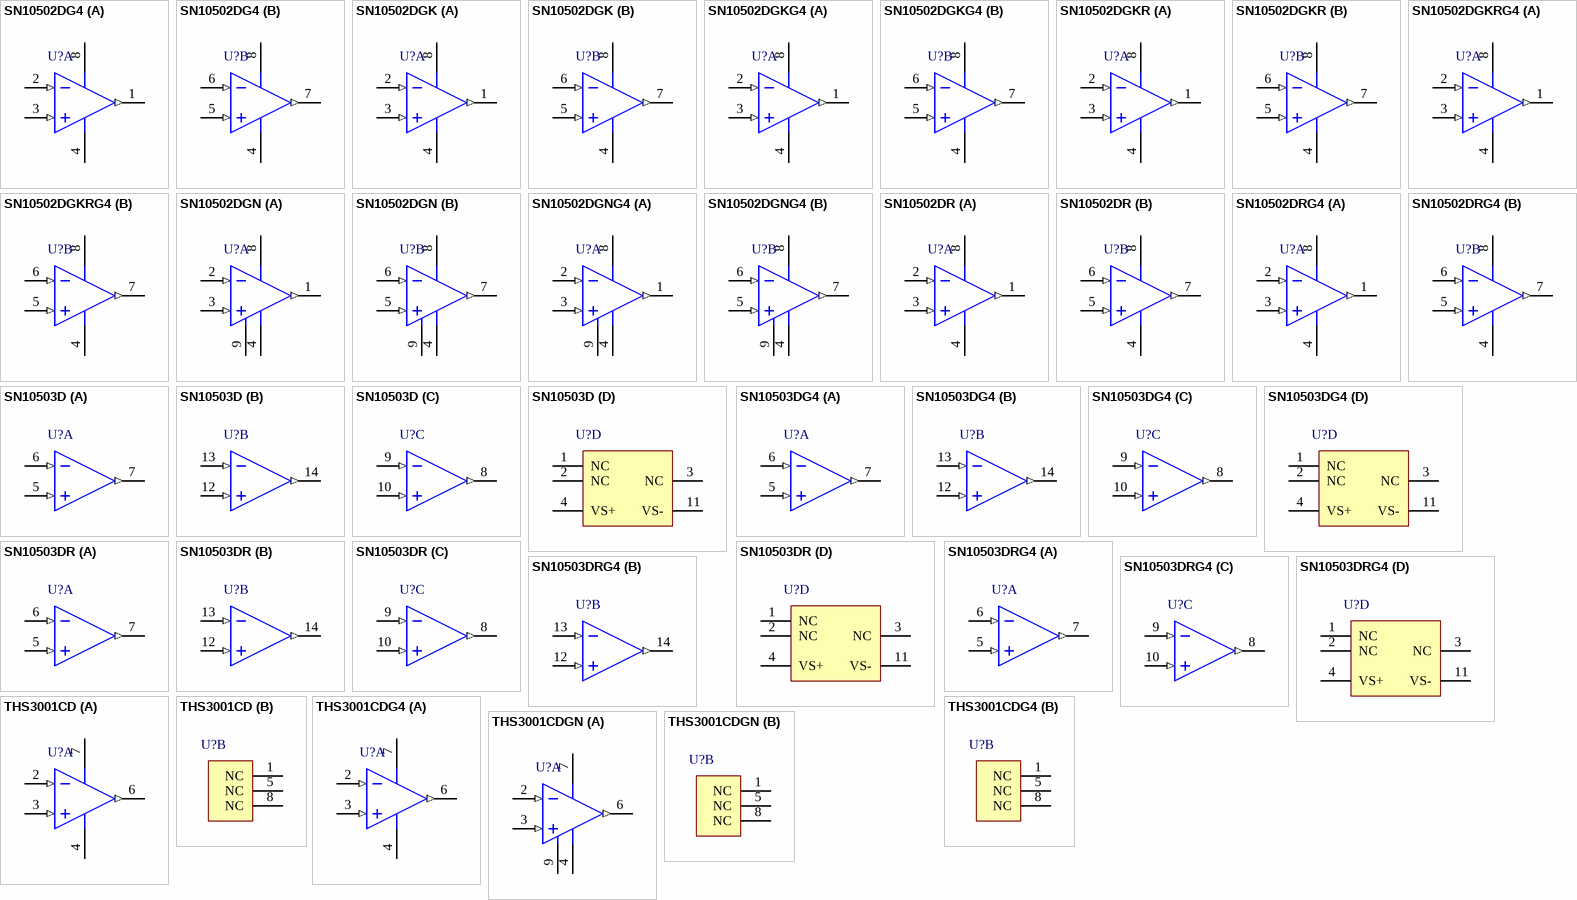
[diagram p22: symbols SN10502DG4 to THS3001CDGN]

## SN10502DG4
designator U?
Low-Distortion High-Speed Rail-to-Rail Output Operational Amplifier, 2.7 to 16 V, -40 to 85 degC, 8-pin SOIC (D8), Green (RoHS & no Sb/Br); Manufacturer: Texas Instruments; PartNumber: SN10502DG4; 2nd Harmonic(dBc): 78; 3rd Harmonic(dBc): 85; @ MHz: 5; Acl, min stable gain(V/V): 1; BW @ Acl(MHz): 100; Diff Gain(%): 0.007; Iib(Max)(nA): 5000; Iq per channel(Max)(mA): 22; Number of Channels: 2; Settling Time (0.1%)(Typ)(ns): 25; Slew Rate(Typ)(V/us): 900; Sub Family: High Output Current Amplifier (>=50mA), High Speed Amplifier (>=50MHz); THD (Fc is 1 MHz)(Typ)(dB): -78; Vio(Max)(mV): 30; Vn at Flatband(Typ)(nV/rtHz): 13; Vs(Max)(V): 16; Vs(Min)(V): 2.7; DatasheetVersion: SLOS408B; PackageVersion: 4040047-3/M, 06/2011; PackageReference: D8; PackageDescription: 8-Pin Plastic Small Outline, Body 4.9 x 3.9 mm, Pitch 1.27 mm; Supplier 1: Digi-Key; Supplier Part Number 1: SN10502DG4-ND; Supplier 2: Newark; Supplier Part Number 2: 58K6486; Supplier 3: Mouser; Supplier Part Number 3: 595-SN10502DG4; Diff Phase(deg): 0.007; Eco-Plan: Green (RoHS & no Sb/Br); Io(Typ)(mA): 100; Mounting Technology: Surface Mount; Code_JEDEC: MS-012; ComponentLink1Description: Manufacturer URL; ComponentLink1URL: http://www.ti.com/; ComponentLink2Description: Datasheet; ComponentLink2URL: http://www.ti.com/general/docs/lit/getliterature.tsp?genericPartNumber=SN10502&fileType=pdf; ComponentLink3Description: Package Specification; ComponentLink3URL: http://www.ti.com/litv/pdf/msoi002j
footprint TI-D8_N (SOIC, 8-Leads, Body 4.9x3.9mm, Pitch 1.27mm, IPC Medium Density)
footprint TI-D8_L (SOIC, 8-Leads, Body 4.9x3.9mm, Pitch 1.27mm, IPC High Density)
footprint TI-D8_M (SOIC, 8-Leads, Body 4.9x3.9mm, Pitch 1.27mm, IPC Low Density)
pins on every part: 4 VS- (power), 8 VS+ (power)
part A pins: 1 OUT1 (out), 2 IN1- (in), 3 IN1+ (in)
part B pins: 5 IN2+ (in), 6 IN2- (in), 7 OUT2 (out)

## SN10502DGK
designator U?
Low-Distortion High-Speed Rail-to-Rail Output Operational Amplifier, 2.7 to 16 V, -40 to 85 degC, 8-pin SOP (DGK8), Green (RoHS & no Sb/Br); Manufacturer: Texas Instruments; PartNumber: SN10502DGK; 2nd Harmonic(dBc): 78; 3rd Harmonic(dBc): 85; @ MHz: 5; Acl, min stable gain(V/V): 1; BW @ Acl(MHz): 100; Diff Gain(%): 0.007; Iib(Max)(nA): 5000; Iq per channel(Max)(mA): 22; Number of Channels: 2; Settling Time (0.1%)(Typ)(ns): 25; Slew Rate(Typ)(V/us): 900; Sub Family: High Output Current Amplifier (>=50mA), High Speed Amplifier (>=50MHz); THD (Fc is 1 MHz)(Typ)(dB): -78; Vio(Max)(mV): 30; Vn at Flatband(Typ)(nV/rtHz): 13; Vs(Max)(V): 16; Vs(Min)(V): 2.7; DatasheetVersion: SLOS408B; PackageVersion: 4073329/E, 05/2006; PackageReference: DGK8; PackageDescription: 8-Pin Thin Small Outline, Body 3 x 3 mm, Pitch 0.65 mm; Supplier 1: Digi-Key; Supplier Part Number 1: 296-16655-5-ND; Supplier 2: Newark; Supplier Part Number 2: 90H3599; Supplier 3: Mouser; Supplier Part Number 3: 595-SN10502DGK; Diff Phase(deg): 0.007; Eco-Plan: Green (RoHS & no Sb/Br); Io(Typ)(mA): 100; Mounting Technology: Surface Mount; Code_JEDEC: MO-187; ComponentLink1Description: Manufacturer URL; ComponentLink1URL: http://www.ti.com/; ComponentLink2Description: Datasheet; ComponentLink2URL: http://www.ti.com/general/docs/lit/getliterature.tsp?genericPartNumber=SN10502&fileType=pdf; ComponentLink3Description: Package Specification; ComponentLink3URL: http://www.ti.com/litv/pdf/mpds028d
footprint TI-DGK8_N (SOP, 8-Leads, Body 3x3mm, Pitch 0.65mm, IPC Medium Density)
footprint TI-DGK8_L (SOP, 8-Leads, Body 3x3mm, Pitch 0.65mm, IPC High Density)
footprint TI-DGK8_M (SOP, 8-Leads, Body 3x3mm, Pitch 0.65mm, IPC Low Density)
pins on every part: 4 VS- (power), 8 VS+ (power)
part A pins: 1 OUT1 (out), 2 IN1- (in), 3 IN1+ (in)
part B pins: 5 IN2+ (in), 6 IN2- (in), 7 OUT2 (out)

## SN10502DGKG4
designator U?
Low-Distortion High-Speed Rail-to-Rail Output Operational Amplifier, 2.7 to 16 V, -40 to 85 degC, 8-pin SOP (DGK8), Green (RoHS & no Sb/Br); Manufacturer: Texas Instruments; PartNumber: SN10502DGKG4; 2nd Harmonic(dBc): 78; 3rd Harmonic(dBc): 85; @ MHz: 5; Acl, min stable gain(V/V): 1; BW @ Acl(MHz): 100; Diff Gain(%): 0.007; Iib(Max)(nA): 5000; Iq per channel(Max)(mA): 22; Number of Channels: 2; Settling Time (0.1%)(Typ)(ns): 25; Slew Rate(Typ)(V/us): 900; Sub Family: High Output Current Amplifier (>=50mA), High Speed Amplifier (>=50MHz); THD (Fc is 1 MHz)(Typ)(dB): -78; Vio(Max)(mV): 30; Vn at Flatband(Typ)(nV/rtHz): 13; Vs(Max)(V): 16; Vs(Min)(V): 2.7; DatasheetVersion: SLOS408B; PackageVersion: 4073329/E, 05/2006; PackageReference: DGK8; PackageDescription: 8-Pin Thin Small Outline, Body 3 x 3 mm, Pitch 0.65 mm; Supplier 1: Digi-Key; Supplier Part Number 1: SN10502DGKG4-ND; Supplier 2: Mouser; Supplier Part Number 2: 595-SN10502DGKG4; Diff Phase(deg): 0.007; Eco-Plan: Green (RoHS & no Sb/Br); Io(Typ)(mA): 100; Mounting Technology: Surface Mount; Code_JEDEC: MO-187; ComponentLink1Description: Manufacturer URL; ComponentLink1URL: http://www.ti.com/; ComponentLink2Description: Datasheet; ComponentLink2URL: http://www.ti.com/general/docs/lit/getliterature.tsp?genericPartNumber=SN10502&fileType=pdf; ComponentLink3Description: Package Specification; ComponentLink3URL: http://www.ti.com/litv/pdf/mpds028d
footprint TI-DGK8_N (SOP, 8-Leads, Body 3x3mm, Pitch 0.65mm, IPC Medium Density)
footprint TI-DGK8_L (SOP, 8-Leads, Body 3x3mm, Pitch 0.65mm, IPC High Density)
footprint TI-DGK8_M (SOP, 8-Leads, Body 3x3mm, Pitch 0.65mm, IPC Low Density)
pins on every part: 4 VS- (power), 8 VS+ (power)
part A pins: 1 OUT1 (out), 2 IN1- (in), 3 IN1+ (in)
part B pins: 5 IN2+ (in), 6 IN2- (in), 7 OUT2 (out)

## SN10502DGKR
designator U?
Low-Distortion High-Speed Rail-to-Rail Output Operational Amplifier, 2.7 to 16 V, -40 to 85 degC, 8-pin SOP (DGK8), Green (RoHS & no Sb/Br); Manufacturer: Texas Instruments; PartNumber: SN10502DGKR; 2nd Harmonic(dBc): 78; 3rd Harmonic(dBc): 85; @ MHz: 5; Acl, min stable gain(V/V): 1; BW @ Acl(MHz): 100; Diff Gain(%): 0.007; Iib(Max)(nA): 5000; Iq per channel(Max)(mA): 22; Number of Channels: 2; Settling Time (0.1%)(Typ)(ns): 25; Slew Rate(Typ)(V/us): 900; Sub Family: High Output Current Amplifier (>=50mA), High Speed Amplifier (>=50MHz); THD (Fc is 1 MHz)(Typ)(dB): -78; Vio(Max)(mV): 30; Vn at Flatband(Typ)(nV/rtHz): 13; Vs(Max)(V): 16; Vs(Min)(V): 2.7; DatasheetVersion: SLOS408B; PackageVersion: 4073329/E, 05/2006; PackageReference: DGK8; PackageDescription: 8-Pin Thin Small Outline, Body 3 x 3 mm, Pitch 0.65 mm; Supplier 1: Digi-Key; Supplier Part Number 1: SN10502DGKR-ND; Supplier 2: Newark; Supplier Part Number 2: 90H3600; Supplier 3: Mouser; Supplier Part Number 3: 595-SN10502DGKR; Diff Phase(deg): 0.007; Eco-Plan: Green (RoHS & no Sb/Br); Io(Typ)(mA): 100; Mounting Technology: Surface Mount; Code_JEDEC: MO-187; ComponentLink1Description: Manufacturer URL; ComponentLink1URL: http://www.ti.com/; ComponentLink2Description: Datasheet; ComponentLink2URL: http://www.ti.com/general/docs/lit/getliterature.tsp?genericPartNumber=SN10502&fileType=pdf; ComponentLink3Description: Package Specification; ComponentLink3URL: http://www.ti.com/litv/pdf/mpds028d
footprint TI-DGK8_N (SOP, 8-Leads, Body 3x3mm, Pitch 0.65mm, IPC Medium Density)
footprint TI-DGK8_L (SOP, 8-Leads, Body 3x3mm, Pitch 0.65mm, IPC High Density)
footprint TI-DGK8_M (SOP, 8-Leads, Body 3x3mm, Pitch 0.65mm, IPC Low Density)
pins on every part: 4 VS- (power), 8 VS+ (power)
part A pins: 1 OUT1 (out), 2 IN1- (in), 3 IN1+ (in)
part B pins: 5 IN2+ (in), 6 IN2- (in), 7 OUT2 (out)

## SN10502DGKRG4
designator U?
Low-Distortion High-Speed Rail-to-Rail Output Operational Amplifier, 2.7 to 16 V, -40 to 85 degC, 8-pin SOP (DGK8), Green (RoHS & no Sb/Br); Manufacturer: Texas Instruments; PartNumber: SN10502DGKRG4; 2nd Harmonic(dBc): 78; 3rd Harmonic(dBc): 85; @ MHz: 5; Acl, min stable gain(V/V): 1; BW @ Acl(MHz): 100; Diff Gain(%): 0.007; Iib(Max)(nA): 5000; Iq per channel(Max)(mA): 22; Number of Channels: 2; Settling Time (0.1%)(Typ)(ns): 25; Slew Rate(Typ)(V/us): 900; Sub Family: High Output Current Amplifier (>=50mA), High Speed Amplifier (>=50MHz); THD (Fc is 1 MHz)(Typ)(dB): -78; Vio(Max)(mV): 30; Vn at Flatband(Typ)(nV/rtHz): 13; Vs(Max)(V): 16; Vs(Min)(V): 2.7; DatasheetVersion: SLOS408B; PackageVersion: 4073329/E, 05/2006; PackageReference: DGK8; PackageDescription: 8-Pin Thin Small Outline, Body 3 x 3 mm, Pitch 0.65 mm; Supplier 1: Digi-Key; Supplier Part Number 1: SN10502DGKRG4-ND; Supplier 2: Newark; Supplier Part Number 2: 24K4807; Supplier 3: Mouser; Supplier Part Number 3: 595-SN10502DGKRG4; Diff Phase(deg): 0.007; Eco-Plan: Green (RoHS & no Sb/Br); Io(Typ)(mA): 100; Mounting Technology: Surface Mount; Code_JEDEC: MO-187; ComponentLink1Description: Manufacturer URL; ComponentLink1URL: http://www.ti.com/; ComponentLink2Description: Datasheet; ComponentLink2URL: http://www.ti.com/general/docs/lit/getliterature.tsp?genericPartNumber=SN10502&fileType=pdf; ComponentLink3Description: Package Specification; ComponentLink3URL: http://www.ti.com/litv/pdf/mpds028d
footprint TI-DGK8_N (SOP, 8-Leads, Body 3x3mm, Pitch 0.65mm, IPC Medium Density)
footprint TI-DGK8_L (SOP, 8-Leads, Body 3x3mm, Pitch 0.65mm, IPC High Density)
footprint TI-DGK8_M (SOP, 8-Leads, Body 3x3mm, Pitch 0.65mm, IPC Low Density)
pins on every part: 4 VS- (power), 8 VS+ (power)
part A pins: 1 OUT1 (out), 2 IN1- (in), 3 IN1+ (in)
part B pins: 5 IN2+ (in), 6 IN2- (in), 7 OUT2 (out)

## SN10502DGN
designator U?
Low-Distortion High-Speed Rail-to-Rail Output Operational Amplifier, 2.7 to 16 V, -40 to 85 degC, 8-pin SOP (DGN8), Green (RoHS & no Sb/Br); Manufacturer: Texas Instruments; PartNumber: SN10502DGN; 2nd Harmonic(dBc): 78; 3rd Harmonic(dBc): 85; @ MHz: 5; Acl, min stable gain(V/V): 1; BW @ Acl(MHz): 100; Diff Gain(%): 0.007; Iib(Max)(nA): 5000; Iq per channel(Max)(mA): 22; Number of Channels: 2; Settling Time (0.1%)(Typ)(ns): 25; Slew Rate(Typ)(V/us): 900; Sub Family: High Output Current Amplifier (>=50mA), High Speed Amplifier (>=50MHz); THD (Fc is 1 MHz)(Typ)(dB): -78; Vio(Max)(mV): 30; Vn at Flatband(Typ)(nV/rtHz): 13; Vs(Max)(V): 16; Vs(Min)(V): 2.7; DatasheetVersion: SLOS408B; PackageVersion: 4073271/F, 05/2011; PackageReference: DGN8-1760X1425TP; PackageDescription: 8-pin Plastic Small Outline, Body 3 x 3 mm, Pitch 0.65 mm; Supplier 1: Digi-Key; Supplier Part Number 1: 296-16656-5-ND; Supplier 2: Newark; Supplier Part Number 2: 90H3601; Supplier 3: Mouser; Supplier Part Number 3: 595-SN10502DGN; Diff Phase(deg): 0.007; Eco-Plan: Green (RoHS & no Sb/Br); Io(Typ)(mA): 100; Mounting Technology: Surface Mount; Code_JEDEC: MO-187; ComponentLink1Description: Manufacturer URL; ComponentLink1URL: http://www.ti.com/; ComponentLink2Description: Datasheet; ComponentLink2URL: http://www.ti.com/general/docs/lit/getliterature.tsp?genericPartNumber=SN10502&fileType=pdf; ComponentLink3Description: Package Specification; ComponentLink3URL: http://www.ti.com/litv/pdf/mpds046e
footprint TI-DGN8-1760X1425TP_N (SOP, 8-Leads, Body 3x3mm, Pitch 0.65mm, Thermal Pad 1.76x1.425mm, IPC Medium Density)
footprint TI-DGN8-1760X1425TP_L (SOP, 8-Leads, Body 3x3mm, Pitch 0.65mm, Thermal Pad 1.76x1.425mm, IPC High Density)
footprint TI-DGN8-1760X1425TP_M (SOP, 8-Leads, Body 3x3mm, Pitch 0.65mm, Thermal Pad 1.76 x 1.425 mm, IPC Low Density)
pins on every part: 4 VS- (power), 8 VS+ (power), 9 EP
part A pins: 1 OUT1 (out), 2 IN1- (in), 3 IN1+ (in)
part B pins: 5 IN2+ (in), 6 IN2- (in), 7 OUT2 (out)

## SN10502DGNG4
designator U?
Low-Distortion High-Speed Rail-to-Rail Output Operational Amplifier, 2.7 to 16 V, -40 to 85 degC, 8-pin SOP (DGN8), Green (RoHS & no Sb/Br); Manufacturer: Texas Instruments; PartNumber: SN10502DGNG4; 2nd Harmonic(dBc): 78; 3rd Harmonic(dBc): 85; @ MHz: 5; Acl, min stable gain(V/V): 1; BW @ Acl(MHz): 100; Diff Gain(%): 0.007; Iib(Max)(nA): 5000; Iq per channel(Max)(mA): 22; Number of Channels: 2; Settling Time (0.1%)(Typ)(ns): 25; Slew Rate(Typ)(V/us): 900; Sub Family: High Output Current Amplifier (>=50mA), High Speed Amplifier (>=50MHz); THD (Fc is 1 MHz)(Typ)(dB): -78; Vio(Max)(mV): 30; Vn at Flatband(Typ)(nV/rtHz): 13; Vs(Max)(V): 16; Vs(Min)(V): 2.7; DatasheetVersion: SLOS408B; PackageVersion: 4073271/F, 05/2011; PackageReference: DGN8-1760X1425TP; PackageDescription: 8-pin Plastic Small Outline, Body 3 x 3 mm, Pitch 0.65 mm; Supplier 1: Digi-Key; Supplier Part Number 1: SN10502DGNG4-ND; Supplier 2: Newark; Supplier Part Number 2: 14M2208; Supplier 3: Mouser; Supplier Part Number 3: 595-SN10502DGNG4; Diff Phase(deg): 0.007; Eco-Plan: Green (RoHS & no Sb/Br); Io(Typ)(mA): 100; Mounting Technology: Surface Mount; Code_JEDEC: MO-187; ComponentLink1Description: Manufacturer URL; ComponentLink1URL: http://www.ti.com/; ComponentLink2Description: Datasheet; ComponentLink2URL: http://www.ti.com/general/docs/lit/getliterature.tsp?genericPartNumber=SN10502&fileType=pdf; ComponentLink3Description: Package Specification; ComponentLink3URL: http://www.ti.com/litv/pdf/mpds046e
footprint TI-DGN8-1760X1425TP_N (SOP, 8-Leads, Body 3x3mm, Pitch 0.65mm, Thermal Pad 1.76x1.425mm, IPC Medium Density)
footprint TI-DGN8-1760X1425TP_L (SOP, 8-Leads, Body 3x3mm, Pitch 0.65mm, Thermal Pad 1.76x1.425mm, IPC High Density)
footprint TI-DGN8-1760X1425TP_M (SOP, 8-Leads, Body 3x3mm, Pitch 0.65mm, Thermal Pad 1.76 x 1.425 mm, IPC Low Density)
pins on every part: 4 VS- (power), 8 VS+ (power), 9 EP
part A pins: 1 OUT1 (out), 2 IN1- (in), 3 IN1+ (in)
part B pins: 5 IN2+ (in), 6 IN2- (in), 7 OUT2 (out)